# EAGLE library part PINHD-2X6 (library upra_lib4eagle)
PIN HEADER
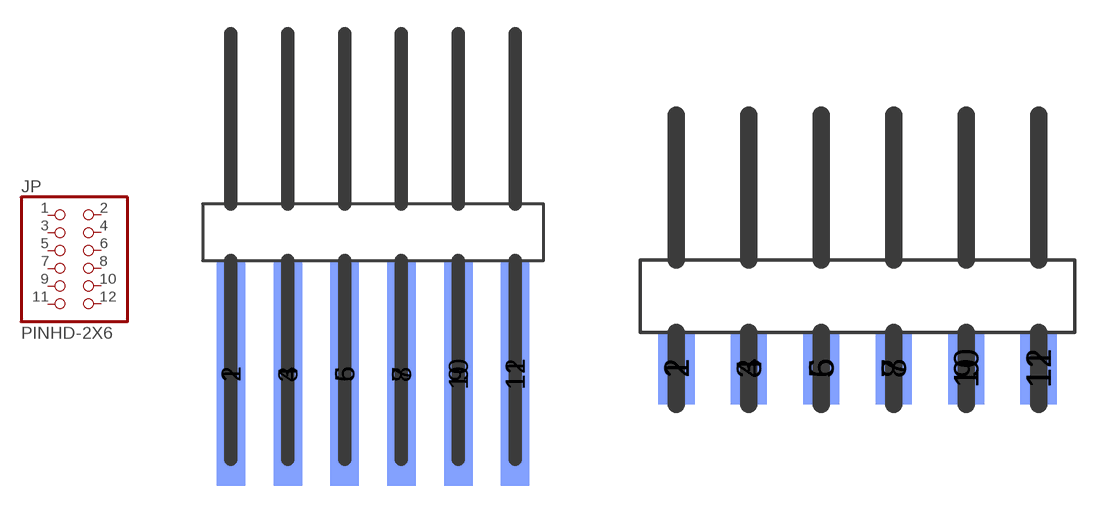
[diagram p10: symbol with the pads of 2X6_PINHEADER_SIDEMOUNT_LONG; footprints 2X6_PINHEADER_SIDEMOUNT_LONG, 2X6_PINHEADER_SIDEMOUNT_SHORT]

Designator prefix JP

## PINHD-2X6-PCB-SIDE-LONG  [2X6_PINHEADER_SIDEMOUNT_LONG]
1  1  pas
2  2  pas
3  3  pas
4  4  pas
5  5  pas
6  6  pas
7  7  pas
8  8  pas
9  9  pas
10  10  pas
11  11  pas
12  12  pas

## PINHD-2X6-PCB-SIDE-SHORT  [2X6_PINHEADER_SIDEMOUNT_SHORT]
Pads as for 2X6_PINHEADER_SIDEMOUNT_LONG

## PINHD-2X6  [2X06]
Pads as for 2X6_PINHEADER_SIDEMOUNT_LONG

## Footprint 2X6_PINHEADER_SIDEMOUNT_LONG (pad centres in mm)
smd 1.27 x 10: 1 -6.35,-5.08; 3 -3.81,-5.08; 5 -1.27,-5.08; 7 1.27,-5.08; 9 3.81,-5.08; 11 6.35,-5.08
smd 1.27 x 10 bottom: 2 -6.35,-5.08; 4 -3.81,-5.08; 6 -1.27,-5.08; 8 1.27,-5.08; 10 3.81,-5.08; 12 6.35,-5.08

## Footprint 2X6_PINHEADER_SIDEMOUNT_SHORT (pad centres in mm)
smd 1.27 x 2.54: 1 -6.35,-1.27; 3 -3.81,-1.27; 5 -1.27,-1.27; 7 1.27,-1.27; 9 3.81,-1.27; 11 6.35,-1.27
smd 1.27 x 2.54 bottom: 2 -6.35,-1.27; 4 -3.81,-1.27; 6 -1.27,-1.27; 8 1.27,-1.27; 10 3.81,-1.27; 12 6.35,-1.27

## Footprint 2X06 (pad centres in mm)
PIN HEADER
drill 1.016 octagon: 1 -6.35,-1.27; 2 -6.35,1.27; 3 -3.81,-1.27; 4 -3.81,1.27; 5 -1.27,-1.27; 6 -1.27,1.27; 7 1.27,-1.27; 8 1.27,1.27; 9 3.81,-1.27; 10 3.81,1.27; 11 6.35,-1.27; 12 6.35,1.27